# Altium schematic symbol library Lakota_PCB.SchLib: 13 symbols
Pins are listed as number, name and electrical type; pins without a type are passive.

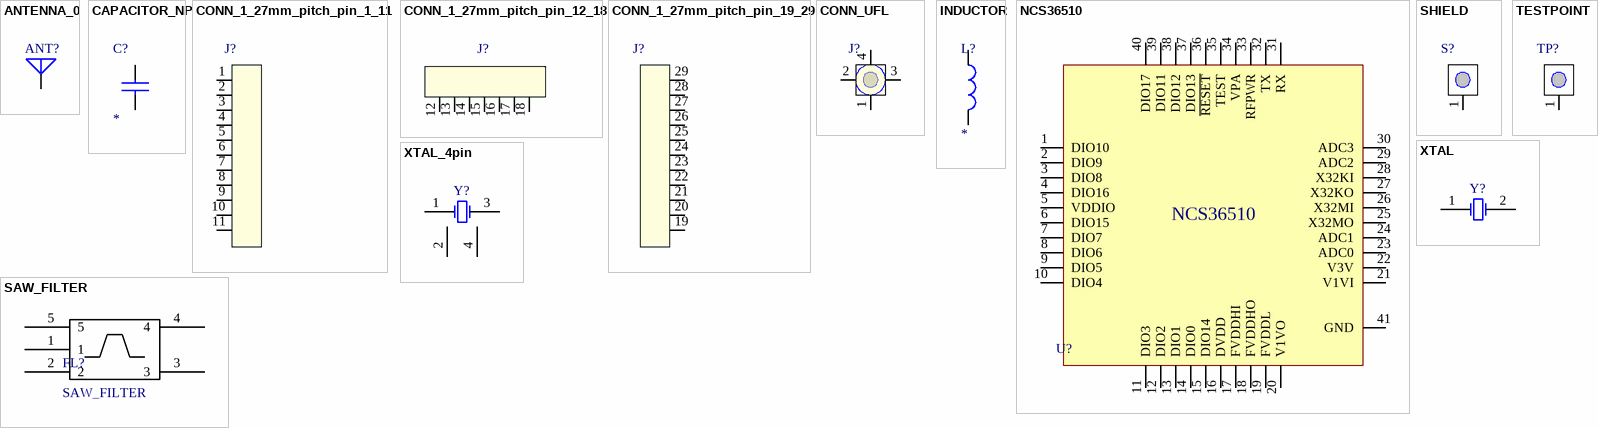
[diagram p0: symbols ANTENNA_0 to XTAL_4pin]

## ANTENNA_0
designator ANT?
footprint JOHANSON_2450AT42A100_SMD
pins: 1

## CAPACITOR_NP
designator C?
Value: *
footprint C_0402
pins: 1, 2

## CONN_1_27mm_pitch_pin_1_11
designator J?  (value not drawn)
footprint 11X1MM_BOT_PAD_1_TO_11_SMD
pins: 1, 2, 3, 4, 5, 6, 7, 8, 9, 10, 11

## CONN_1_27mm_pitch_pin_12_18
designator J?  (value not drawn)
footprint 7X1MM_BOT_PAD_12_TO_18_SMD
pins: 12, 13, 14, 15, 16, 17, 18

## CONN_1_27mm_pitch_pin_19_29
designator J?  (value not drawn)
footprint 11X1MM_BOT_PAD_19_TO_29_SMD
pins: 19, 20, 21, 22, 23, 24, 25, 26, 27, 28, 29

## CONN_UFL
designator J?  (value not drawn)
footprint UFL_SMD
pins: 1, 2, 3, 4

## INDUCTOR
designator L?
Value: *
footprint L_0402
pins: 1, 2

## NCS36510
designator U?  (value not drawn)
footprint NCS36510
pins: 1 DIO10, 2 DIO9, 3 DIO8, 4 DIO16, 5 VDDIO, 6 DIO15, 7 DIO7, 8 DIO6, 9 DIO5, 10 DIO4, 11 DIO3, 12 DIO2, 13 DIO1, 14 DIO0, 15 DIO14, 16 DVDD, 17 FVDDHI, 18 FVDDHO, 19 FVDDL, 20 V1VO, 21 V1VI, 22 V3V, 23 ADC0, 24 ADC1, 25 X32MO, 26 X32MI, 27 X32KO, 28 X32KI, 29 ADC2, 30 ADC3, 31 RX, 32 TX, 33 RFPWR, 34 VPA, 35 TEST, 36 ~{RESET}, 37 DIO13, 38 DIO12, 39 DIO11, 40 DIO17, 41 GND

## SAW_FILTER
designator FL?
SAW Filter
footprint SAW_FILTER
pins: 1, 2, 3, 4, 5

## SHIELD
designator S?  (value not drawn)
footprint LAKOTA_SHIELD
pins: 1

## TESTPOINT
designator TP?  (value not drawn)
footprint TP-30C12
pins: 1

## XTAL
designator Y?
Crystal Oscillator
footprint HOSONIC_ETDG_20X12_SMD
pins: 1 OSC1, 2 OSC2

## XTAL_4pin
designator Y?
Crystal Oscillator
footprint HOSONIC_2SB_250X200_SMD
pins: 1 OSC1, 2 OSC2, 3, 4 OSC4